# Altium footprint library Rez_Cap.PcbLib: 25 footprints (part 1 of 2)
Each footprint in its own frame and in the unit in brackets; x right, y up, seen from the top. Pads: shape width x height; smd on the part's side, far side on the other; paste and mask are expansions set on the pad; w line width, h text height; cw(c..) or ccw(c..) is an arc to the next point about the centre after c.
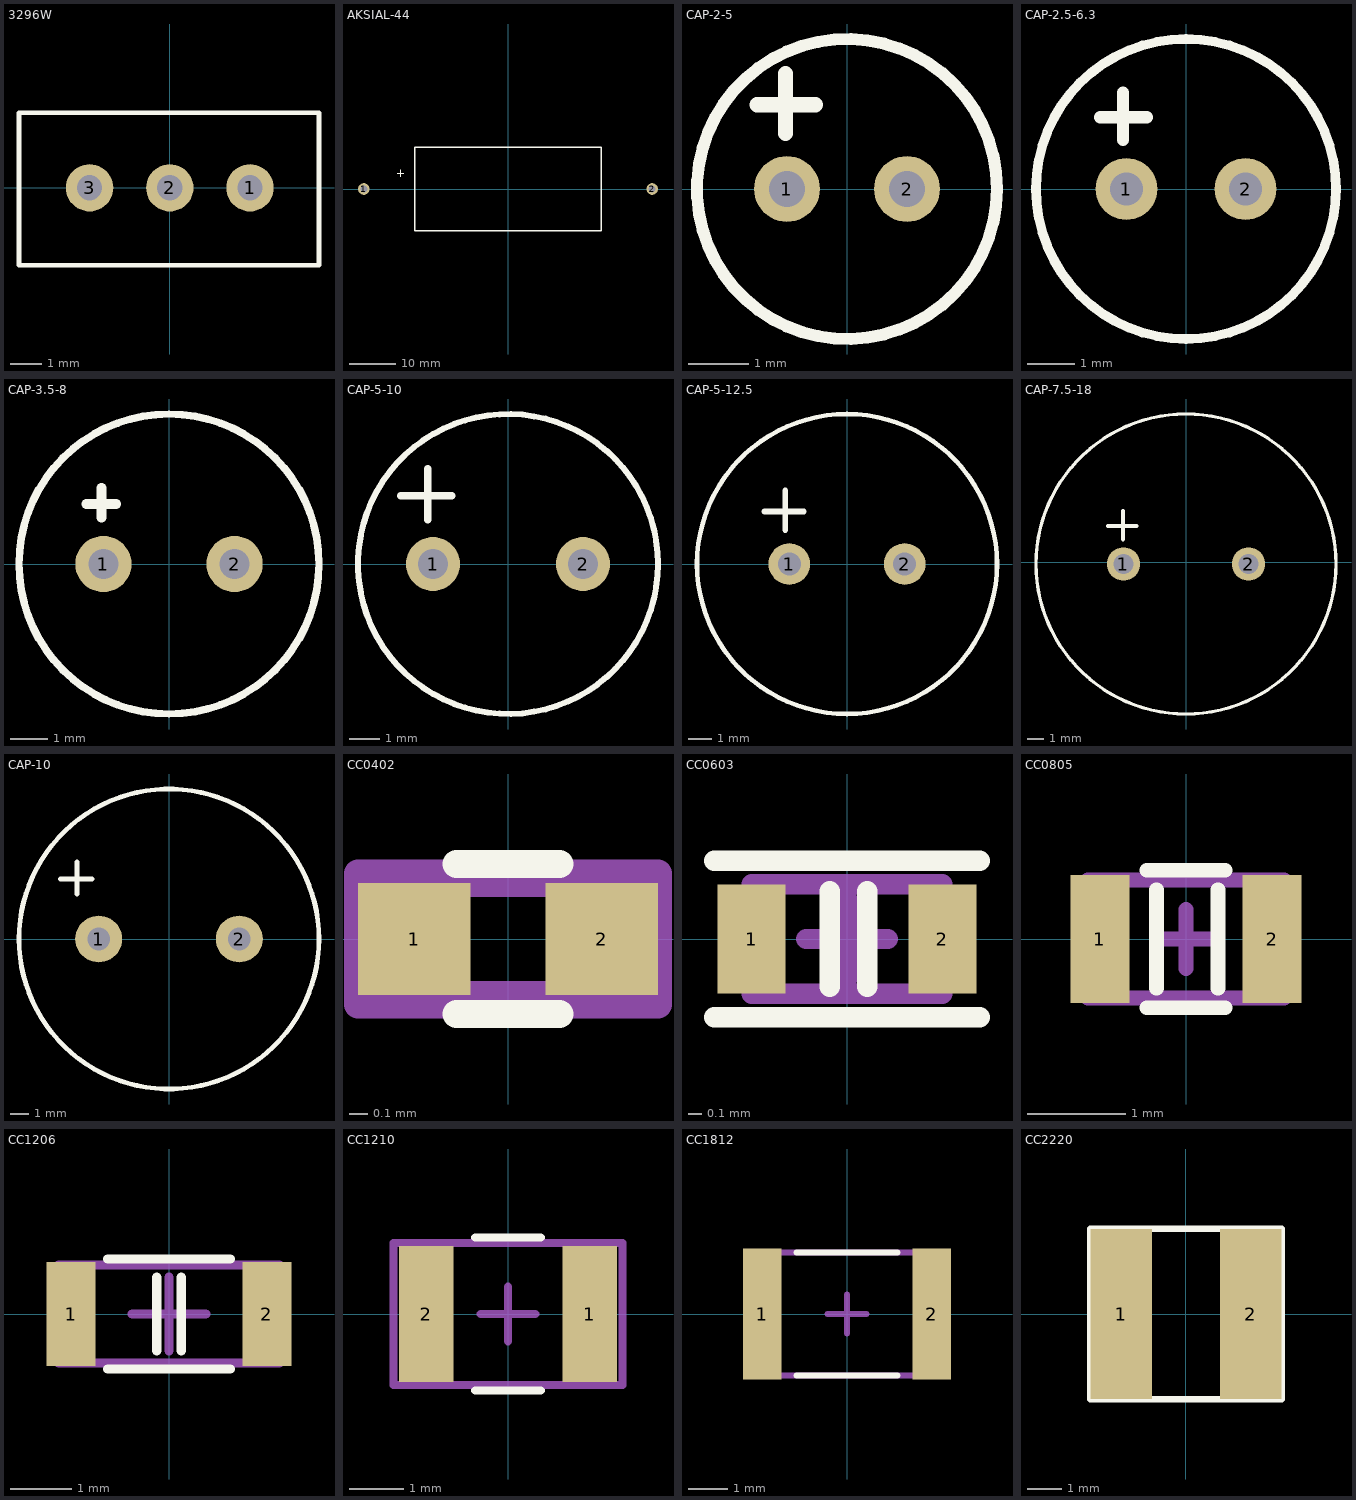
[diagram p0: the footprints below, top view; thin cyan lines are the x and y axes]

## 3296W [mm]
pads (3):
  round 1.5 hole 0.8: 1(2.54,0) 2(0,0) 3(-2.54,0)
Top Overlay:
  lines w0.15: -4.775,-2.45 4.725,-2.45 4.725,2.375 -4.775,2.375 -4.775,-2.45
3D body "3296W.STEP": height 11.52, standoff -3, extent -4.765,-2.43 4.765,2.4

## AKSIAL-44 [mm]
pads (2):
  round 2.5 hole 1.5 unplated: 1(-31,0) 2(31,0)
Top Overlay:
  lines w0.25: -23.8,3.4 -23.6,3.4 -22.8,3.4 -22.4,3.4 ; -23.1,2.65 -23.1,4.15
  lines w0.3: -20,-9 20,-9 20,0 20,9 -20,9 -20,0 -20,-9

## CAP-2-5 [mm]
pads (2):
  round 1.1 hole 0.6 unplated: 1(-1,0) 2(1,0)
Top Overlay:
  circle w0.2: c0,0 r2.5
  lines w0.254: -1.5,1.406 -0.525,1.406 ; -1.024,0.925 -1.024,1.925

## CAP-2.5-6.3 [mm]
pads (2):
  round 1.3 hole 0.7 unplated: 1(-1.25,0) 2(1.25,0)
Top Overlay:
  circle w0.2: c0,0 r3.15
  lines w0.254: -1.8,1.506 -0.825,1.506 ; -1.324,1.025 -1.324,2.025

## CAP-3.5-8 [mm]
pads (2):
  round 1.5 hole 0.8 unplated: 1(-1.75,0) 2(1.75,0)
Top Overlay:
  circle w0.2: c0,0 r4
  lines w0.254: -2.208,1.6 -1.408,1.6 ; -1.8,1.239 -1.8,2.039

## CAP-5-10 [mm]
pads (2):
  round 1.8 hole 1 unplated: 1(-2.5,0) 2(2.5,0)
Top Overlay:
  circle w0.2: c0,0 r5
  lines w0.254: -3.574,2.281 -1.874,2.281 ; -2.674,1.481 -2.674,3.181

## CAP-5-12.5 [mm]
pads (2):
  round 1.8 hole 1 unplated: 1(-2.5,0) 2(2.5,0)
Top Overlay:
  circle w0.2: c0,0 r6.5
  lines w0.254: -3.574,2.281 -1.874,2.281 ; -2.674,1.481 -2.674,3.181

## CAP-7.5-18 [mm]
pads (2):
  round 2 hole 1.2 unplated: 1(-3.75,-0.1) 2(3.75,-0.1)
Top Overlay:
  circle w0.2: c0,-0.1 r9
  lines w0.254: -4.674,2.181 -2.974,2.181 ; -3.774,1.381 -3.774,3.081

## CAP-10 [mm]
pads (2):
  round 2.5 hole 1.2: 1(-3.75,0) 2(3.75,0)
Top Overlay:
  circle w0.254: c0,0 r8
  lines w0.254: -5.8,3.2 -4.1,3.2 ; -4.9,2.4 -4.9,4.1

## CC0402 [mm]
pads (2):
  rect 0.6x0.6 smd: 1(-0.5,0) 2(0.5,0)
Top Overlay:
  lines w0.15: -0.275,-0.4 0.275,-0.4 ; -0.275,0.4 0.275,0.4
Top Courtyard:
  lines w0.15: -0.8,-0.3 0.8,-0.3 0.8,0.3 -0.8,0.3 -0.8,-0.3
Mechanical 29:
  lines w0.15: -0.8,-0.35 -0.8,0.35 0.8,0.35 0.8,-0.35 -0.8,-0.35
3D body "0402C.STEP": height 0.36, standoff 0, extent -0.5,-0.265 0.5,0.265

## CC0603 [mm]
height 0.8
pads (2):
  rect 0.5x0.8 smd: 1(-0.7,0) 2(0.7,0)
Top Overlay:
  lines w0.15: -0.975,-0.575 0.975,-0.575 ; -0.975,0.575 0.975,0.575 ; -0.127,-0.35 -0.127,0.35 ; 0.148,-0.35 0.148,0.35
Top Courtyard:
  lines w0.15: -0.3,0 0.3,0 ; 0,-0.3 0,0.3 ; -0.7,-0.4 -0.7,0.4 0.7,0.4 0.7,-0.4 -0.7,-0.4
3D body: height 0.5, standoff 0, extent 0.4,-0.4 0.8,0.4
3D body: height 0.5, standoff 0, extent -0.4,-0.4 0.4,0.4
3D body: height 0.5, standoff 0, extent -0.8,-0.4 -0.4,0.4

## CC0805 [mm]
height 1
pads (2):
  rect 0.6x1.3 smd: 1(-0.875,0) 2(0.875,0)
Top Overlay:
  lines w0.15: -0.4,-0.7 0.4,-0.7 ; -0.4,0.7 0.4,0.7 ; -0.3,-0.5 -0.3,0.5 ; 0.325,-0.5 0.325,0.5
Top Courtyard:
  lines w0.15: -0.3,0 0.3,0 ; 0,-0.3 0,0.3 ; -1,-0.6 1,-0.6 1,0.6 -1,0.6 -1,-0.6
3D body: height 0.8, standoff 0, extent -1,-0.6 -0.4,0.6
3D body: height 0.8, standoff 0, extent -0.4,-0.6 0.4,0.6
3D body: height 0.8, standoff 0, extent 0.4,-0.6 1,0.6

## CC1206 [mm]
pads (2):
  rect 0.8x1.7 smd: 1(-1.6,0) 2(1.6,0)
Top Overlay:
  lines w0.15: -1,-0.9 1,-0.9 ; -1,0.9 1,0.9 ; -0.2,-0.6 -0.2,0.6 ; 0.2,-0.6 0.2,0.6
Top Courtyard:
  lines w0.15: -0.6,0 0.6,0 ; 0,-0.6 0,0.6 ; -1.8,-0.8 -1.8,0.8 1.8,0.8 1.8,-0.8 -1.8,-0.8
3D body: height 0.8, standoff 0, extent -1.7,-0.8 -0.9,0.8
3D body: height 0.8, standoff 0, extent -0.9,-0.8 0.9,0.8
3D body: height 0.8, standoff 0, extent 0.9,-0.8 1.7,0.8

## CC1210 [mm]
pads (2):
  rect 1x2.5 smd: 1(1.5,0) 2(-1.5,0)
Top Overlay:
  lines w0.15: -0.6,-1.4 0.6,-1.4 ; -0.6,1.4 0.6,1.4
Top Courtyard:
  lines w0.15: -0.5,0 0.5,0 ; 0,-0.5 0,0.5 ; -2.1,-1.3 -2.1,1.3 2.1,1.3 2.1,-1.3 -2.1,-1.3
3D body: height 1.6, standoff 0, extent -2,-1.3 -0.9,1.3
3D body: height 1.6, standoff 0, extent -0.9,-1.3 0.9,1.3
3D body: height 1.6, standoff 0, extent 0.9,-1.3 2,1.3

## CC1812 [mm]
pads (2):
  rect 1x3.35 smd: 1(-2.175,0) 2(2.175,0)
Top Overlay:
  lines w0.15: -1.3,-1.575 1.3,-1.575 ; -1.3,1.575 1.3,1.575
Top Courtyard:
  lines w0.15: -0.5,0 0.5,0 ; 0,-0.5 0,0.5 ; -2.3,-1.575 -2.3,1.575 2.3,1.575 2.3,-1.575 -2.3,-1.575
3D body "C1812C.step": height 1, standoff 0, extent -2.25,-1.6 2.25,1.6

## CC2220 [mm]
pads (2):
  rect 1.8x5 smd: 1(-1.9,0) 2(1.9,0)
Top Overlay:
  lines w0.2: -2.8,-2.5 2.8,-2.5 2.8,2.5 -2.8,2.5 -2.8,0 -2.8,-2.5